# EAGLE library part JST-6 (library Arduino-Boards)
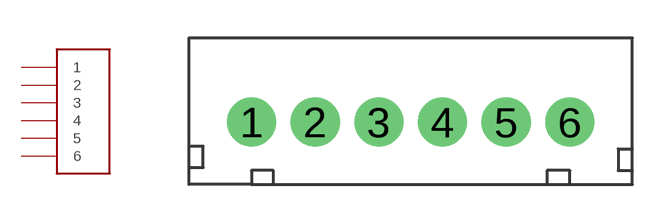
[diagram p1: symbol with the pads of JST-6; footprint JST-6]

Designator prefix -

## JST-6  [JST-6]
1  1
2  2
3  3
4  4
5  5
6  6

## Footprint JST-6 (pad centres in mm)
drill 1 pad 1.93: 1 -3.75,-0.4; 2 -1.25,-0.4; 3 1.25,-0.4; 4 3.75,-0.4; 5 6.25,-0.4; 6 8.75,-0.4